# Altium footprint library DC_AC_Inverter.PcbLib: 18 footprints (part 1 of 2)
Each footprint in its own frame and in the unit in brackets; x right, y up, seen from the top. Pads: shape width x height; smd on the part's side, far side on the other; paste and mask are expansions set on the pad; w line width, h text height; cw(c..) or ccw(c..) is an arc to the next point about the centre after c.
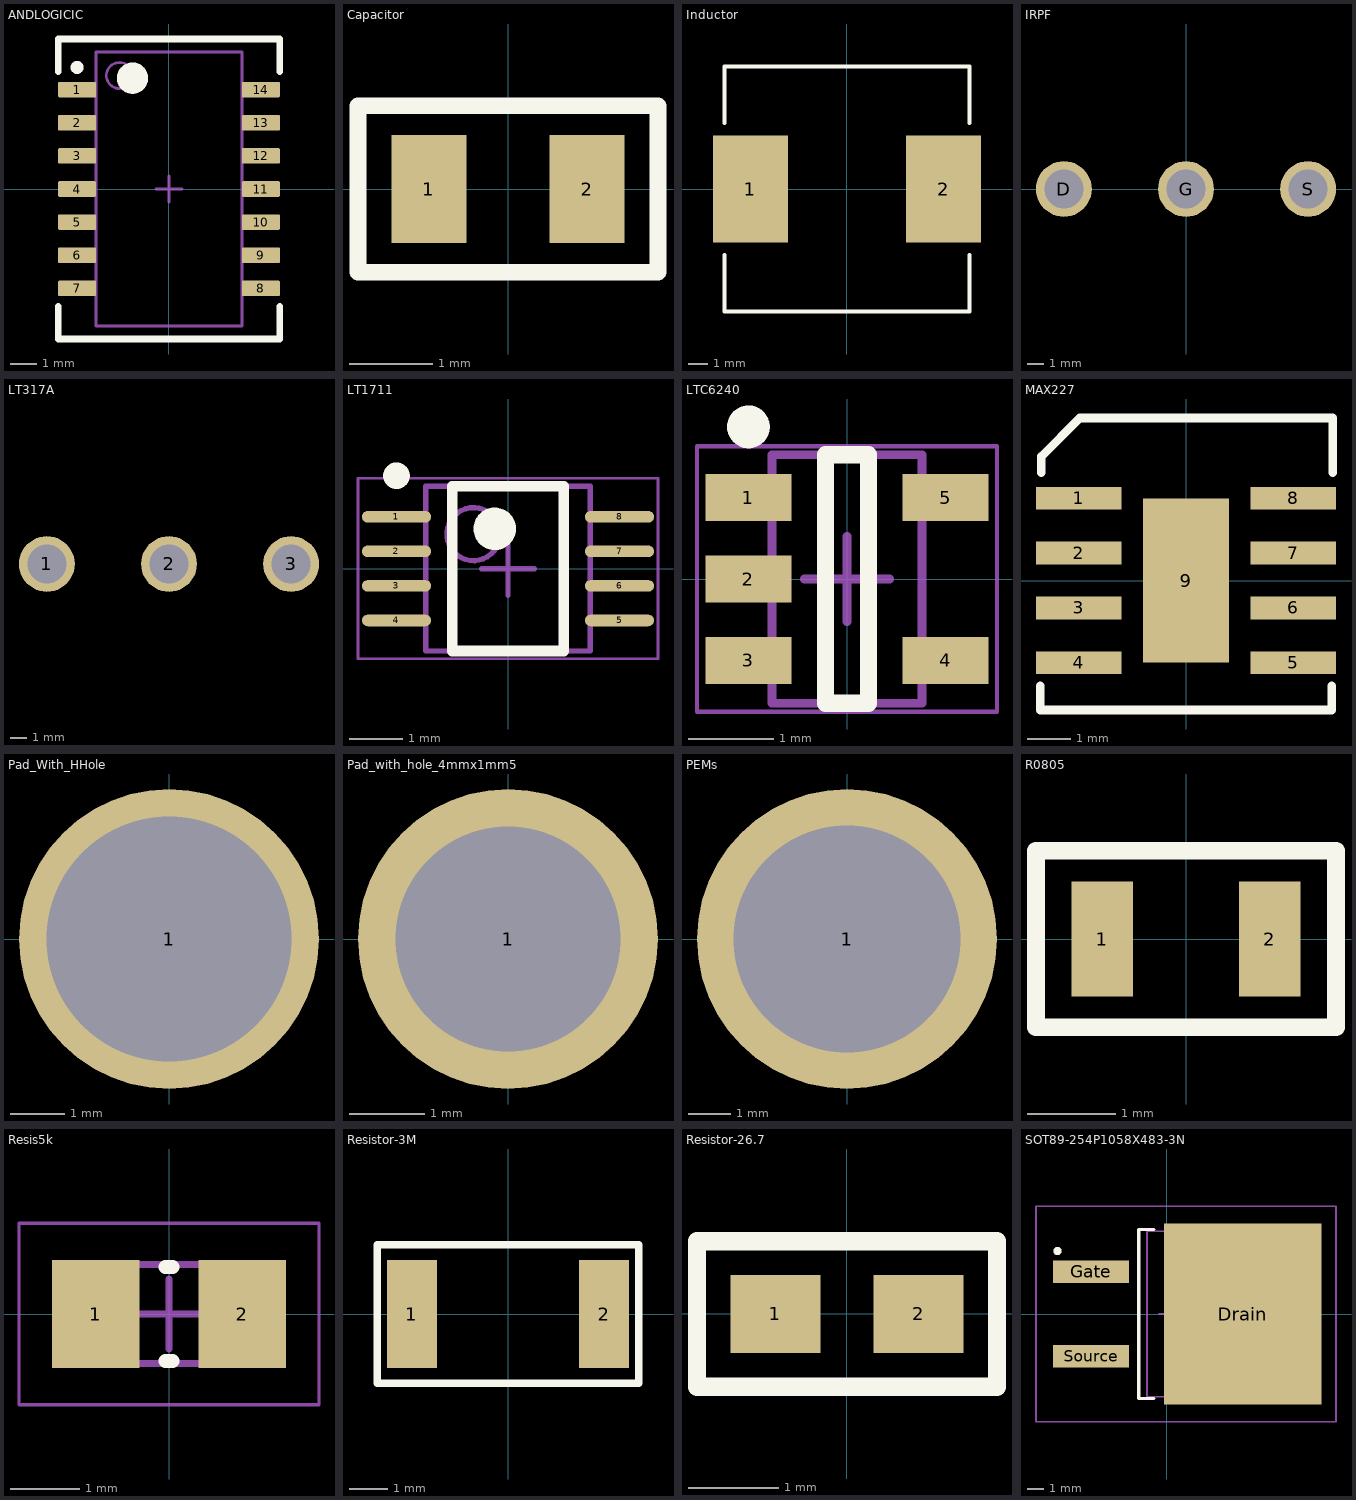
[diagram p0: the footprints below, top view; thin cyan lines are the x and y axes]

## ANDLOGICIC [mm] "SOP, 14-Leads, Body 10.2x5.3mm, Pitch 1.27mm, IPC High Density"
height 2
pads (14):
  rrect17% 1.45x0.6 smd: 1(-3.525,3.81) 2(-3.525,2.54) 3(-3.525,1.27) 4(-3.525,0) 5(-3.525,-1.27) 6(-3.525,-2.54) 7(-3.525,-3.81) 8(3.525,-3.81) 9(3.525,-2.54) 10(3.525,-1.27) 11(3.525,0) 12(3.525,1.27) 13(3.525,2.54) 14(3.525,3.81)
Top Overlay:
  circle w0.6: c-1.4,4.25 r0.3
  circle w0.25: c-3.525,4.66 r0.125
  lines w0.254: -4.25,-4.5 -4.25,-5.75 4.25,-5.75 4.25,-4.5 ; -4.25,4.5 -4.25,5.75 4.25,5.75 4.25,4.5
Mechanical 13:
  circle w0.1: c-1.9,4.35 r0.5
  lines w0.1: -2.8,-5.25 2.8,-5.25 2.8,5.25 -2.8,5.25 -2.8,-5.25
Mechanical 15:
  lines w0.1: -0.5,0 0.5,0 ; 0,-0.5 0,0.5
3D body: height 2, standoff 0.05, extent -2.8,-5.25 2.8,5.25

## Capacitor [mm]
pads (2):
  rect 0.9x1.3 smd: 1(-0.95,0) 2(0.95,0)
Top Overlay:
  lines w0.2: -1.8,-1 -1.8,1 1.8,1 1.8,-1 -1.8,-1

## Inductor [mm]
pads (2):
  rect 3.85x5.5 smd: 1(-4.975,0) 2(4.975,0)
Top Overlay:
  lines w0.2: -6.3,-3.4 -6.3,-6.3 6.3,-6.3 6.3,-3.4 ; -6.3,3.4 -6.3,6.3 6.3,6.3 6.3,3.4

## IRPF [mm]
pads (3):
  round 3.43 hole 2.39: D(-7.5,0) G(0,0) S(7.5,0)

## LT317A [mm]
pads (3):
  round 3.43 hole 2.39: 1(796.25,-296.5) 2(803.75,-296.5) 3(811.25,-296.5)

## LT1711 [mm] "SOP, 8-Leads, Body 3x3mm, Pitch 0.65mm, IPC High Density"
height 1.1
pads (8):
  oval 1.3x0.22 smd: 1(-2.1,0.975) 2(-2.1,0.325) 3(-2.1,-0.325) 4(-2.1,-0.975) 5(2.1,-0.975) 6(2.1,-0.325) 7(2.1,0.325) 8(2.1,0.975)
Top Overlay:
  circle w0.4: c-0.25,0.75 r0.2
  circle w0.25: c-2.1,1.75 r0.125
  lines w0.2: -1.05,-1.55 1.05,-1.55 1.05,1.55 -1.05,1.55 -1.05,-1.55
Mechanical 13:
  circle w0.1: c-0.65,0.65 r0.5
  lines w0.1: -1.55,-1.55 1.55,-1.55 1.55,1.55 -1.55,1.55 -1.55,-1.55
Mechanical 15:
  lines w0.05: -2.825,-1.7 2.825,-1.7 2.825,1.7 -2.825,1.7 -2.825,-1.7
  lines w0.1: -0.5,0 0.5,0 ; 0,-0.5 0,0.5
3D body: height 1.1, standoff 0.05, extent -1.55,-1.55 1.55,1.55

## LTC6240 [mm] "SOT23, 5-Leads, Body 2.90x1.63mm, Pitch 0.95mm, IPC High Density"
height 1
pads (5):
  rect 1x0.55 smd: 1(-1.15,0.95) 2(-1.15,0) 3(-1.15,-0.95) 4(1.15,-0.95) 5(1.15,0.95)
Top Overlay:
  circle w0.25: c-1.15,1.775 r0.125
  lines w0.2: -0.25,-1.45 0.25,-1.45 0.25,1.45 -0.25,1.45 -0.25,-1.45
Mechanical 13:
  lines w0.1: -0.875,-1.45 -0.875,1.45 0.875,1.45 0.875,-1.45 -0.875,-1.45
Mechanical 15:
  lines w0.05: -1.75,-1.55 -1.75,1.55 1.75,1.55 1.75,-1.55 -1.75,-1.55
  lines w0.1: -0.5,0 0.5,0 ; 0,-0.5 0,0.5
3D body: height 1, standoff 0.01, extent -0.875,-1.45 0.875,1.45

## MAX227 [mm]
pads (9):
  rect 1.98x0.53 smd: 1(-2.485,1.905) 2(-2.485,0.635) 3(-2.485,-0.635) 4(-2.485,-1.905) 5(2.485,-1.905) 6(2.485,-0.635) 7(2.485,0.635) 8(2.485,1.905)
  rect 2x3.8 smd: 9(0,0)
Top Overlay:
  lines w0.2: -3.375,-2.435 -3.375,-3 3.375,-3 3.375,-2.435 ; -3.35,2.5 -3.35,2.875 -2.46,3.765 1.275,3.765 ; 1.27,3.765 3.4,3.765 3.4,2.5

## Pad_With_HHole [mm]
pads (1):
  round 5.5 hole 4.5: 1(0,0)

## Pad_with_hole_4mmx1mm5 [mm]
pads (1):
  round 4 hole 3: 1(0,0)

## PEMs [mil] "Brass Surface Mount Nuts and Spacers / Type SMTSOB"
pads (1):
  round 281 hole 213 paste+0: 1(0,0)

## R0805 [mm]
pads (2):
  rect 0.7x1.3 smd: 1(-0.95,0) 2(0.95,0)
Top Overlay:
  lines w0.2: -1.7,-1 1.7,-1 1.7,1 -1.7,1 -1.7,-1

## Resis5k [mm] "Chip Resistor, 2-Leads, Body 2.03x1.27mm, IPC Low Density"
height 0.83
pads (2):
  rect 1.25x1.55 smd: 1(-1.05,0) 2(1.05,0)
Top Overlay:
  lines w0.2: -0.05,-0.675 0.05,-0.675 ; -0.05,0.675 0.05,0.675
Mechanical 13:
  lines w0.1: -1.09,-0.71 -1.09,0.71 1.09,0.71 1.09,-0.71 -1.09,-0.71
Mechanical 15:
  lines w0.05: -2.15,-1.3 -2.15,1.3 2.15,1.3 2.15,-1.3 -2.15,-1.3
  lines w0.1: -0.5,0 0.5,0 ; 0,-0.5 0,0.5
3D body: height 0.83, standoff 0, extent -0.71,-0.71 0.71,0.71
3D body: height 0.83, standoff 0, extent -1.09,-0.71 -0.71,0.71
3D body: height 0.83, standoff 0, extent 0.71,-0.71 1.09,0.71

## Resistor-3M [mm]
pads (2):
  rect 1.3x2.8 smd: 1(-2.5,0) 2(2.5,0)
Top Overlay:
  lines w0.2: -3.4,-1.8 -3.4,1.8 3.4,1.8 3.4,-1.8 -3.4,-1.8

## Resistor-26.7 [mm]
pads (2):
  rect 0.99x0.86 smd: 1(-0.787,0) 2(0.787,0)
Top Overlay:
  lines w0.2: -1.651,-0.8 1.651,-0.8 1.651,0.8 -1.651,0.8 -1.651,-0.8

## SOT89-254P1058X483-3N [mm] "SOT89, 3-Leads, Body 10.16x9.02mm, Pitch 2.54mm, Lead Span 10.6mm, IPC Medium Density"
height 4.83
pads (3):
  rect 9.5x10.9 smd paste-2539.97 mask+0: Drain(4.575,0)
  rect 4.6x1.35 smd paste-0.05 mask+0: Gate(-4.575,2.54) Source(-4.575,-2.54)
Top Overlay:
  circle w0.25: c-6.6,3.8 r0.125
  lines w0.2: -0.8,-5.1 -1.7,-5.1 -1.7,5.1 -0.8,5.1
Top Paste:
  region: -0.075,-5.36 -0.075,-0.16 4.425,-0.16 4.425,-5.36
  region: 9.225,5.34 9.225,0.14 4.725,0.14 4.725,5.34
  region: 9.225,-0.16 9.225,-5.36 4.725,-5.36 4.725,-0.16
  region: -0.075,0.14 -0.075,5.34 4.425,5.34 4.425,0.14
Mechanical 3:
  text ".DESIGNATOR" at -3.641,-0.384 h1.2
Mechanical 13:
  lines w0.1: -1.2,-5 -1.2,5 8.05,5 8.05,-5 -1.2,-5
Mechanical 15:
  lines w0.1: -0.5,0 0.5,0 ; 0,-0.5 0,0.5 ; -7.9,-6.5 -7.9,6.5 10.2,6.5 10.2,-6.5 -7.9,-6.5
3D body "PG-TO263-3-2.stp": height 4.51, standoff 0, extent -6.275,-5 8.675,5